# Altium footprint library WSON_DPD.PcbLib: 3 footprints
Each footprint in its own frame and in the unit in brackets; x right, y up, seen from the top. Pads: shape width x height; smd on the part's side, far side on the other; paste and mask are expansions set on the pad; w line width, h text height; cw(c..) or ccw(c..) is an arc to the next point about the centre after c.
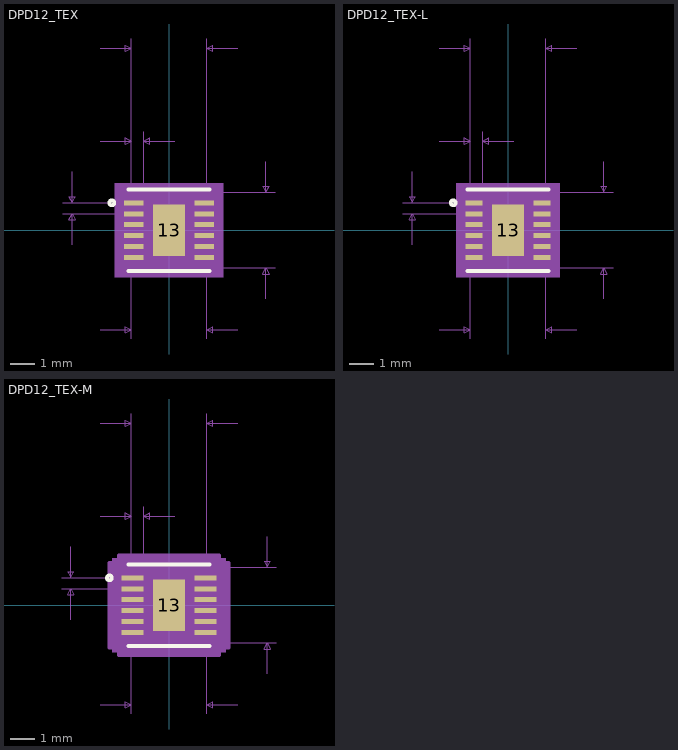
[diagram p0: the footprints below, top view; thin cyan lines are the x and y axes]

## DPD12_TEX [mm]
pads (13):
  rect 0.808x0.204 smd paste+0 mask+0: 1(-1.445,1.125) 2(-1.445,0.675) 3(-1.445,0.225) 4(-1.445,-0.225) 5(-1.445,-0.675) 6(-1.445,-1.125) 7(1.445,-1.125) 8(1.445,-0.675) 9(1.445,-0.225) 10(1.445,0.225) 11(1.445,0.675) 12(1.445,1.125)
  rect 1.321x2.108 smd paste+0 mask+0: 13(0,0)
Top Overlay:
  circle w0.152: c-2.35,1.125 r0.102
  lines w0.152: -1.676,-1.676 1.676,-1.676 ; -1.676,1.676 1.676,1.676
Mechanical 5:
  region: 2.23,-1.93 -2.23,-1.93 -2.23,1.93 2.23,1.93
Mechanical 7:
  lines w0.025: -4.366,0.675 -1.445,0.675 ; -4.366,1.125 -1.445,1.125 ; -3.985,-0.595 -3.985,0.675 ; -3.985,2.395 -3.985,1.125 ; -2.819,-4.089 -1.549,-4.089 ; -2.819,3.665 -1.549,3.665 ; -2.819,7.475 -1.549,7.475 ; -1.549,-4.47 -1.549,-1.549 ; -1.549,4.046 -1.549,1.125 -1.549,7.856 ; -1.041,1.125 -1.041,4.046 ; 0.229,3.665 -1.041,3.665 ; 1.549,-4.47 1.549,-1.549 4.366,-1.549 ; 1.549,1.125 1.549,7.856 ; 1.549,1.549 4.366,1.549 ; 2.819,-4.089 1.549,-4.089 ; 2.819,7.475 1.549,7.475 ; 3.985,-2.819 3.985,-1.549 ; 3.985,2.819 3.985,1.549 ; -3.985,0.675 -3.858,0.421 -4.112,0.421 -3.985,0.675 ; -3.985,1.125 -3.858,1.379 -4.112,1.379 -3.985,1.125 ; -1.549,-4.089 -1.803,-4.216 -1.803,-3.962 -1.549,-4.089 ; -1.549,3.665 -1.803,3.538 -1.803,3.792 -1.549,3.665 ; -1.549,7.475 -1.803,7.348 -1.803,7.602 -1.549,7.475 ; -1.041,3.665 -0.787,3.538 -0.787,3.792 -1.041,3.665 ; 1.549,-4.089 1.803,-4.216 1.803,-3.962 1.549,-4.089 ; 1.549,7.475 1.803,7.348 1.803,7.602 1.549,7.475 ; 3.985,-1.549 4.112,-1.803 3.858,-1.803 3.985,-1.549 ; 3.985,1.549 4.112,1.803 3.858,1.803 3.985,1.549
  text "0.122in/3.099mm" at -2.381,-5.232 h0.64
  text "0.122in/3.099mm" at 4.493,-0.318 h0.64
  text "0.018in/0.45mm" at -8.938,0.583 h0.64
  text "0.02in/0.508mm" at -3.518,4.173 h0.64
  text "0.122in/3.099mm" at -2.381,7.983 h0.64
  text "Alt 2 Padstyle: b229_152h76" at -8.572,-17.043 h1.27
  text "Alt 1 Padstyle: b152_229h76" at -8.572,-15.519 h1.27
  text "Heat Tab Padstyle: r132_211" at -8.572,-12.471 h1.27
  text "Default Padstyle: r81_20" at -7.62,-10.947 h1.27
Mechanical 13:
  circle w0: c-1.041,1.125 r0.076
  lines w0: -0.305,1.549 ccw(c0,1.549) 0.305,1.549
  lines w0.025: -1.549,-1.549 -1.549,1.549 1.549,1.549 1.549,-1.549 -1.549,-1.549
Mechanical 15:
  region: -1.803,-1.481 -2.103,-1.481 -2.103,1.481 -1.803,1.481 -1.803,1.803 1.803,1.803 1.803,1.481 2.103,1.481 2.103,-1.481 1.803,-1.481 1.803,-1.803 -1.803,-1.803
  lines w0.152: -2.103,-1.481 -1.803,-1.481 -1.803,-1.803 1.803,-1.803 1.803,-1.481 2.103,-1.481 2.103,1.481 1.803,1.481 1.803,1.803 -1.803,1.803 -1.803,1.481 -2.103,1.481 -2.103,-1.481
3D body "WSON_DPD12.stp": height 0.75, standoff -0.05, extent -1.5,-1.5 1.5,1.5

## DPD12_TEX-L [mm]
pads (13):
  rect 0.708x0.204 smd paste+0 mask+0: 1(-1.395,1.125) 2(-1.395,0.675) 3(-1.395,0.225) 4(-1.395,-0.225) 5(-1.395,-0.675) 6(-1.395,-1.125) 7(1.395,-1.125) 8(1.395,-0.675) 9(1.395,-0.225) 10(1.395,0.225) 11(1.395,0.675) 12(1.395,1.125)
  rect 1.321x2.108 smd paste+0 mask+0: 13(0,0)
Top Overlay:
  circle w0.152: c-2.25,1.125 r0.102
  lines w0.152: -1.676,-1.676 1.676,-1.676 ; -1.676,1.676 1.676,1.676
Mechanical 5:
  region: 2.13,-1.93 -2.13,-1.93 -2.13,1.93 2.13,1.93
Mechanical 7:
  lines w0.025: -4.316,0.675 -1.395,0.675 ; -4.316,1.125 -1.395,1.125 ; -3.935,-0.595 -3.935,0.675 ; -3.935,2.395 -3.935,1.125 ; -2.819,-4.089 -1.549,-4.089 ; -2.819,3.665 -1.549,3.665 ; -2.819,7.475 -1.549,7.475 ; -1.549,-4.47 -1.549,-1.549 ; -1.549,4.046 -1.549,1.125 -1.549,7.856 ; -1.041,1.125 -1.041,4.046 ; 0.229,3.665 -1.041,3.665 ; 1.549,-4.47 1.549,-1.549 4.316,-1.549 ; 1.549,1.125 1.549,7.856 ; 1.549,1.549 4.316,1.549 ; 2.819,-4.089 1.549,-4.089 ; 2.819,7.475 1.549,7.475 ; 3.935,-2.819 3.935,-1.549 ; 3.935,2.819 3.935,1.549 ; -3.935,0.675 -3.808,0.421 -4.062,0.421 -3.935,0.675 ; -3.935,1.125 -3.808,1.379 -4.062,1.379 -3.935,1.125 ; -1.549,-4.089 -1.803,-4.216 -1.803,-3.962 -1.549,-4.089 ; -1.549,3.665 -1.803,3.538 -1.803,3.792 -1.549,3.665 ; -1.549,7.475 -1.803,7.348 -1.803,7.602 -1.549,7.475 ; -1.041,3.665 -0.787,3.538 -0.787,3.792 -1.041,3.665 ; 1.549,-4.089 1.803,-4.216 1.803,-3.962 1.549,-4.089 ; 1.549,7.475 1.803,7.348 1.803,7.602 1.549,7.475 ; 3.935,-1.549 4.062,-1.803 3.808,-1.803 3.935,-1.549 ; 3.935,1.549 4.062,1.803 3.808,1.803 3.935,1.549
  text "0.122in/3.099mm" at -2.381,-5.232 h0.64
  text "0.122in/3.099mm" at 4.443,-0.318 h0.64
  text "0.018in/0.45mm" at -8.888,0.583 h0.64
  text "0.02in/0.508mm" at -3.518,4.173 h0.64
  text "0.122in/3.099mm" at -2.381,7.983 h0.64
  text "Alt 2 Padstyle: b229_152h76" at -8.572,-17.043 h1.27
  text "Alt 1 Padstyle: b152_229h76" at -8.572,-15.519 h1.27
  text "Heat Tab Padstyle: r132_211" at -8.572,-12.471 h1.27
  text "Default Padstyle: r71_20" at -7.62,-10.947 h1.27
Mechanical 13:
  circle w0: c-1.041,1.125 r0.076
  lines w0: -0.305,1.549 ccw(c0,1.549) 0.305,1.549
  lines w0.025: -1.549,-1.549 -1.549,1.549 1.549,1.549 1.549,-1.549 -1.549,-1.549
Mechanical 15:
  region: -1.651,-1.329 -1.851,-1.329 -1.851,1.329 -1.651,1.329 -1.651,1.651 1.651,1.651 1.651,1.329 1.851,1.329 1.851,-1.329 1.651,-1.329 1.651,-1.651 -1.651,-1.651
  lines w0.152: -1.851,-1.329 -1.651,-1.329 -1.651,-1.651 1.651,-1.651 1.651,-1.329 1.851,-1.329 1.851,1.329 1.651,1.329 1.651,1.651 -1.651,1.651 -1.651,1.329 -1.851,1.329 -1.851,-1.329
3D body "WSON_DPD12.stp": height 0.75, standoff -0.05, extent -1.5,-1.5 1.5,1.5
3D body: height 0.25, standoff 0, extent 0,0 0.254,0.254

## DPD12_TEX-M [mm]
pads (13):
  rect 0.908x0.204 smd paste+0 mask+0: 1(-1.495,1.125) 2(-1.495,0.675) 3(-1.495,0.225) 4(-1.495,-0.225) 5(-1.495,-0.675) 6(-1.495,-1.125) 7(1.495,-1.125) 8(1.495,-0.675) 9(1.495,-0.225) 10(1.495,0.225) 11(1.495,0.675) 12(1.495,1.125)
  rect 1.321x2.108 smd paste+0 mask+0: 13(0,0)
Top Overlay:
  circle w0.152: c-2.45,1.125 r0.102
  lines w0.152: -1.676,-1.676 1.676,-1.676 ; -1.676,1.676 1.676,1.676
Mechanical 5:
  region: 2.33,-1.93 -2.33,-1.93 -2.33,1.93 2.33,1.93
Mechanical 7:
  lines w0.025: -4.416,0.675 -1.495,0.675 ; -4.416,1.125 -1.495,1.125 ; -4.035,-0.595 -4.035,0.675 ; -4.035,2.395 -4.035,1.125 ; -2.819,-4.089 -1.549,-4.089 ; -2.819,3.665 -1.549,3.665 ; -2.819,7.475 -1.549,7.475 ; -1.549,-4.47 -1.549,-1.549 ; -1.549,4.046 -1.549,1.125 -1.549,7.856 ; -1.041,1.125 -1.041,4.046 ; 0.229,3.665 -1.041,3.665 ; 1.549,-4.47 1.549,-1.549 4.416,-1.549 ; 1.549,1.125 1.549,7.856 ; 1.549,1.549 4.416,1.549 ; 2.819,-4.089 1.549,-4.089 ; 2.819,7.475 1.549,7.475 ; 4.035,-2.819 4.035,-1.549 ; 4.035,2.819 4.035,1.549 ; -4.035,0.675 -3.908,0.421 -4.162,0.421 -4.035,0.675 ; -4.035,1.125 -3.908,1.379 -4.162,1.379 -4.035,1.125 ; -1.549,-4.089 -1.803,-4.216 -1.803,-3.962 -1.549,-4.089 ; -1.549,3.665 -1.803,3.538 -1.803,3.792 -1.549,3.665 ; -1.549,7.475 -1.803,7.348 -1.803,7.602 -1.549,7.475 ; -1.041,3.665 -0.787,3.538 -0.787,3.792 -1.041,3.665 ; 1.549,-4.089 1.803,-4.216 1.803,-3.962 1.549,-4.089 ; 1.549,7.475 1.803,7.348 1.803,7.602 1.549,7.475 ; 4.035,-1.549 4.162,-1.803 3.908,-1.803 4.035,-1.549 ; 4.035,1.549 4.162,1.803 3.908,1.803 4.035,1.549
  text "0.122in/3.099mm" at -2.381,-5.232 h0.64
  text "0.122in/3.099mm" at 4.543,-0.318 h0.64
  text "0.018in/0.45mm" at -8.988,0.583 h0.64
  text "0.02in/0.508mm" at -3.518,4.173 h0.64
  text "0.122in/3.099mm" at -2.381,7.983 h0.64
  text "Alt 2 Padstyle: b229_152h76" at -8.572,-17.043 h1.27
  text "Alt 1 Padstyle: b152_229h76" at -8.572,-15.519 h1.27
  text "Heat Tab Padstyle: r132_211" at -8.572,-12.471 h1.27
  text "Default Padstyle: r91_20" at -7.62,-10.947 h1.27
Mechanical 13:
  circle w0: c-1.041,1.125 r0.076
  lines w0: -0.305,1.549 ccw(c0,1.549) 0.305,1.549
  lines w0.025: -1.549,-1.549 -1.549,1.549 1.549,1.549 1.549,-1.549 -1.549,-1.549
Mechanical 15:
  region: -2.057,-1.735 -2.457,-1.735 -2.457,1.735 -2.057,1.735 -2.057,2.057 2.057,2.057 2.057,1.735 2.457,1.735 2.457,-1.735 2.057,-1.735 2.057,-2.057 -2.057,-2.057
  lines w0.152: -2.457,-1.735 -2.057,-1.735 -2.057,-2.057 2.057,-2.057 2.057,-1.735 2.457,-1.735 2.457,1.735 2.057,1.735 2.057,2.057 -2.057,2.057 -2.057,1.735 -2.457,1.735 -2.457,-1.735
3D body "WSON_DPD12.stp": height 0.75, standoff -0.05, extent -1.5,-1.5 1.5,1.5
3D body: height 0.25, standoff 0, extent 0,0 0.254,0.254